# Altium schematic symbol library TL431BSA-7.Schlib: 1 symbol
Pins are listed as number, name and electrical type; pins without a type are passive.

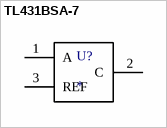
[diagram p0: symbol TL431BSA-7]

## TL431BSA-7
designator U?
Voltage Reference 2.495V 0.5% Adj. SOT23 | Diodes Inc TL431BSA-7
pins: 1 A, 2 C, 3 REF